# EAGLE library part DS04E (library switch-dil)
DIL/CODE SWITCH
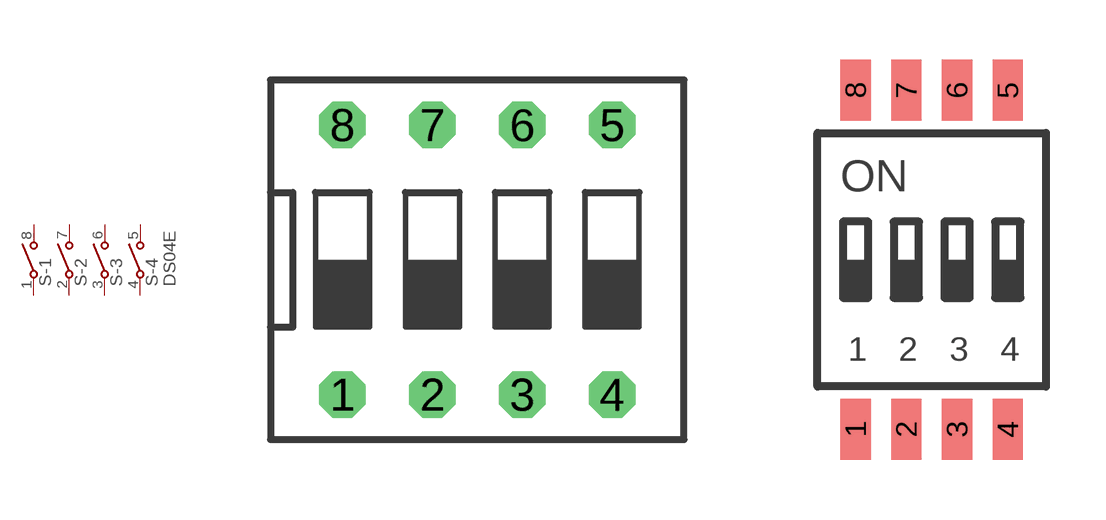
[diagram p10: symbol with the pads of DS-04; footprints DS-04, 218-04]

Designator prefix S; gates -1=S -2=S -3=S -4=S+V

## DS04E  [DS-04]
1  -1:1  pas
2  -2:1  pas
3  -3:1  pas
4  -4:1  pas
5  -4:2  pas
6  -3:2  pas
7  -2:2  pas
8  -1:2  pas

## DS04E-CT218-4  [218-04]
Pads as for DS-04

## DS04E-SDA04SK  [SDA04SK]
Pads as for DS-04

## DS04E-DA-04  [DA-04]
Pads as for DS-04

## Footprint DS-04 (pad centres in mm)
DIL/CODE SWITCH Mors distributor Buerklin, 17G554
drill 0.813 octagon: 1 -3.81,-3.81; 2 -1.27,-3.81; 3 1.27,-3.81; 4 3.81,-3.81; 5 3.81,3.81; 6 1.27,3.81; 7 -1.27,3.81; 8 -3.81,3.81

## Footprint 218-04 (pad centres in mm)
CTS SERIES 218LP - Gull Wing Terminal
smd 0.762 x 1.524: 1 -1.905,-4.245; 2 -0.635,-4.245; 3 0.635,-4.245; 4 1.905,-4.245; 5 1.905,4.245; 6 0.635,4.245; 7 -0.635,4.245; 8 -1.905,4.245

## Footprint SDA04SK (pad centres in mm)
C&K SDA Series
smd 1.397 x 2.032: 1 -3.81,-4.445; 2 -1.27,-4.445; 3 1.27,-4.445; 4 3.81,-4.445; 5 3.81,4.445; 6 1.27,4.445; 7 -1.27,4.445; 8 -3.81,4.445

## Footprint DA-04 (pad centres in mm)
DIL/CODE SWITCH Mors distributor Buerklin, 17G584
drill 0.813 octagon: 1 -3.81,-1.27; 2 -1.27,-1.27; 3 1.27,-1.27; 4 3.81,-1.27; 5 3.81,1.27; 6 1.27,1.27; 7 -1.27,1.27; 8 -3.81,1.27